# Altium integrated library Rectifier Bridge.IntLib: 1 symbol
Pins are listed as number, name and electrical type; pins without a type are passive.

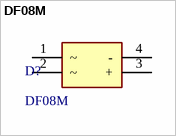
[diagram p0: symbol DF08M]

## DF08M
designator D?
footprint DF08M
pins: 1 ~, 2 ~, 3 +, 4 -